# EAGLE library part LTC6082 (library ARVP_07-15-13)
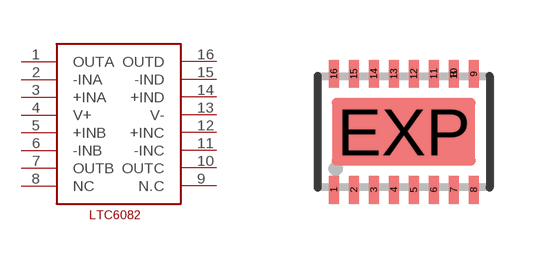
[diagram p7: symbol with the pads of DFN16-5X3; footprint DFN16-5X3]

Designator prefix -

## LTC6082  [DFN16-5X3]
1  OUTA
2  -INA
3  +INA
4  V+
5  +INB
6  -INB
7  OUTB
8  NC
9  N.C
10  OUTC
11  -INC
12  +INC
13  V-
14  +IND
15  -IND
16  OUTD

## Footprint DFN16-5X3 (pad centres in mm)
14-Lead Plastic DFN (4mm × 3mm) (Reference LTC DWG # 05-08-1708 Rev B) Source: http://www.linear.com/pc/downloadDocument.do?navId=H0,C1,C1155,C1001,C1152,P36532,D19318
smd 0.25 x 0.7: 1 -1.5,-1.45; 2 -1,-1.45; 3 -0.5,-1.45; 4 0,-1.45; 5 0.5,-1.45; 6 1,-1.45; 7 1.5,-1.45; 8 2,-1.45; 9 2,1.45; 10 1.5,1.45; 11 1,1.45; 12 0.5,1.45; 13 0,1.45; 14 -0.5,1.45; 15 -1,1.45; 16 -1.5,1.45; B 1.5,1.45
smd 3.6 x 1.7: EXP 0.25,0